# EAGLE library part FTSH-107-01-L-DV-K-TR (library FTSH-107-01-L-DV-K-TR)
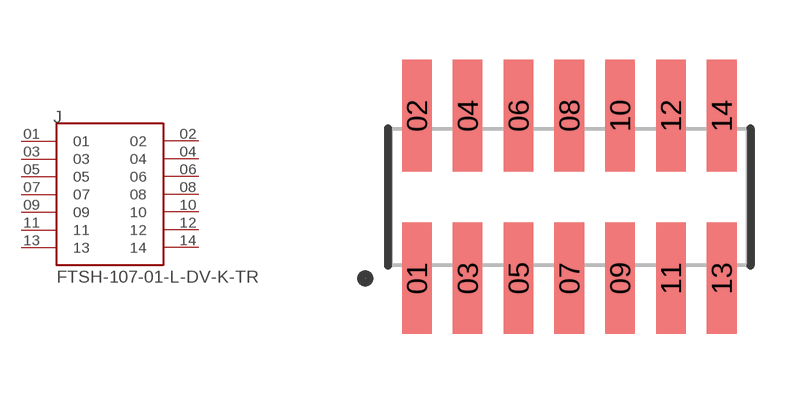
[diagram p0: symbol with the pads of SAMTEC_FTSH-107-01-L-DV-K-TR; footprint SAMTEC_FTSH-107-01-L-DV-K-TR]

Designator prefix J

## FTSH-107-01-L-DV-K-TR (MANUFACTURER: Samtec; PARTREV: R; STANDARD: Manufacturer Recommendations)  [SAMTEC_FTSH-107-01-L-DV-K-TR]
01  01  pas
02  02  pas
03  03  pas
04  04  pas
05  05  pas
06  06  pas
07  07  pas
08  08  pas
09  09  pas
10  10  pas
11  11  pas
12  12  pas
13  13  pas
14  14  pas

## Footprint SAMTEC_FTSH-107-01-L-DV-K-TR (pad centres in mm)
smd 0.74 x 2.79: 01 -3.81,-2.035; 02 -3.81,2.035; 03 -2.54,-2.035; 04 -2.54,2.035; 05 -1.27,-2.035; 06 -1.27,2.035; 07 0,-2.035; 08 0,2.035; 09 1.27,-2.035; 10 1.27,2.035; 11 2.54,-2.035; 12 2.54,2.035; 13 3.81,-2.035; 14 3.81,2.035